# Altium footprint library IGT60R070D1ATMA1.PcbLib: 1 footprints
Each footprint in its own frame and in the unit in brackets; x right, y up, seen from the top. Pads: shape width x height; smd on the part's side, far side on the other; paste and mask are expansions set on the pad; w line width, h text height; cw(c..) or ccw(c..) is an arc to the next point about the centre after c.
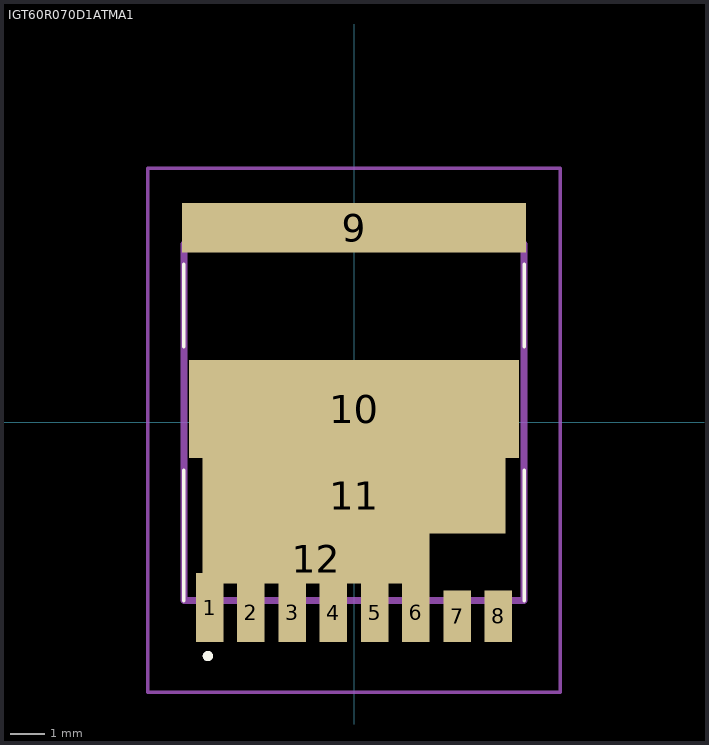
[diagram p0: the footprint, top view; thin cyan lines are the x and y axes]

## IGT60R070D1ATMA1 [mm]
pads (12):
  rect 0.8x2 smd: 1(-4.2,-5.39)
  rect 0.8x1.7 smd: 2(-3,-5.54) 3(-1.8,-5.54) 4(-0.6,-5.54) 5(0.6,-5.54) 6(1.8,-5.54)
  rect 0.8x1.5 smd: 7(3,-5.64) 8(4.2,-5.64)
  rect 10x1.45 smd: 9(0,5.66)
  rect 9.6x2.85 smd: 10(0,0.385)
  rect 8.8x2.2 smd: 11(0,-2.14)
  rect 6.6x1.45 smd: 12(-1.1,-3.965)
Top Overlay:
  lines w0.1: -4.95,-5.188 -4.95,-1.4 ; -4.95,-5.188 -4.95,-5.188 ; -4.95,-5.188 -4.95,-1.4 ; -4.95,-1.4 -4.95,-1.4 ; -4.95,2.2 -4.95,4.6 ; -4.95,2.2 -4.95,2.2 ; -4.95,2.2 -4.95,4.6 ; -4.95,4.6 -4.95,4.6 ; 4.95,-5.188 4.95,-5.188 ; 4.95,-5.188 4.95,-1.4 ; 4.95,-5.188 4.95,-1.4 ; 4.95,-1.4 4.95,-1.4 ; 4.95,2.2 4.95,2.4 ; 4.95,2.2 4.95,2.2 ; 4.95,2.2 4.95,2.4 ; 4.95,2.4 4.95,4.6 ; 4.95,2.4 4.95,2.4 ; 4.95,2.4 4.95,4.6 ; 4.95,2.4 4.95,2.4 ; 4.95,4.6 4.95,4.6
  lines w0.2: -4.3,-6.8 -4.3,-6.8 ; -4.3,-6.8 ccw(c-4.25,-6.8) -4.2,-6.8 ; -4.3,-6.8 cw(c-4.25,-6.8) -4.2,-6.8 ; -4.3,-6.8 -4.3,-6.8 ; -4.3,-6.8 ccw(c-4.25,-6.8) -4.2,-6.8 ; -4.2,-6.8 -4.2,-6.8
Mechanical 15:
  lines w0.2: -4.95,-5.188 4.95,-5.188 4.95,5.188 -4.95,5.188 -4.95,-5.188
Mechanical 20:
  lines w0.1: -6,-7.85 6,-7.85 6,7.385 -6,7.385 -6,-7.85